# EAGLE library part ITG3200 (library ITG3200)
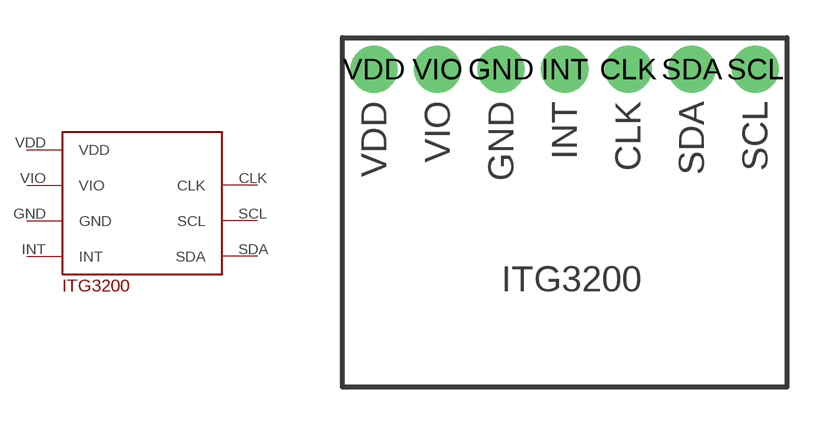
[diagram p0: symbol with the pads of ITG3200; footprint ITG3200]

Designator prefix -

## ITG3200  [ITG3200]
CLK  CLK
GND  GND
INT  INT
SCL  SCL
SDA  SDA
VDD  VDD
VIO  VIO

## Footprint ITG3200 (pad centres in mm)
drill 1.016 pad 1.88: CLK 11.43,12.7; GND 6.35,12.7; INT 8.89,12.7; SCL 16.51,12.7; SDA 13.97,12.7; VDD 1.27,12.7; VIO 3.81,12.7